# Altium footprint library IRM-05-5.PcbLib: 1 footprints
Each footprint in its own frame and in the unit in brackets; x right, y up, seen from the top. Pads: shape width x height; smd on the part's side, far side on the other; paste and mask are expansions set on the pad; w line width, h text height; cw(c..) or ccw(c..) is an arc to the next point about the centre after c.
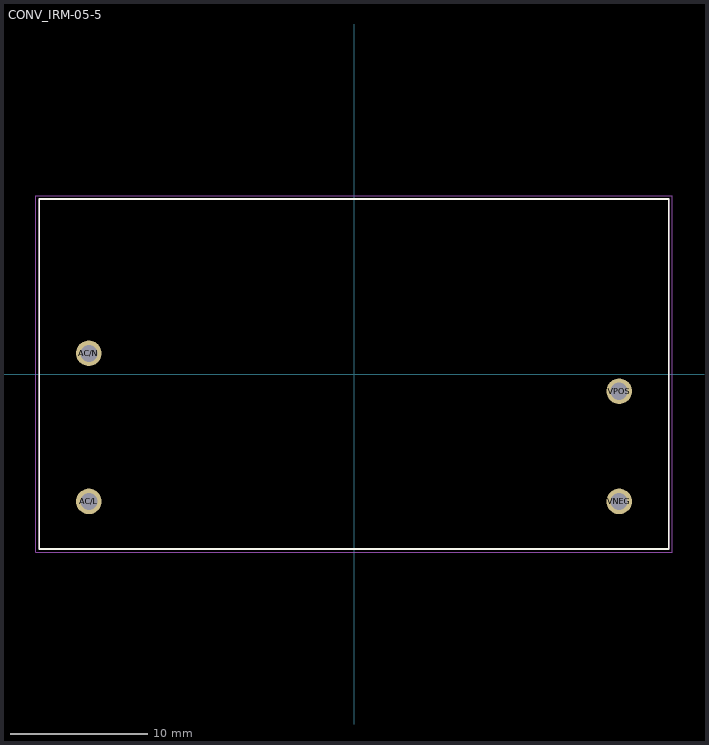
[diagram p0: the footprint, top view; thin cyan lines are the x and y axes]

## CONV_IRM-05-5 [mm]
pads (4):
  round 1.86 hole 1.24: AC/L(-19.25,-9.25) AC/N(-19.25,1.5) VNEG(19.25,-9.25) VPOS(19.25,-1.25)
Top Overlay:
  lines w0.127: -22.85,-12.7 22.85,-12.7 22.85,12.7 -22.85,12.7 -22.85,-12.7
Mechanical 13:
  lines w0.127: -22.85,-12.7 22.85,-12.7 22.85,12.7 -22.85,12.7 -22.85,-12.7
Mechanical 15:
  lines w0.05: -23.1,-12.95 23.1,-12.95 23.1,12.95 -23.1,12.95 -23.1,-12.95
3D body "step_temp.STEP": height 21.5, standoff -4.5, extent -22.85,-12.7 22.85,12.7